# Altium footprint library shutdown_circuit.PcbLib: 38 footprints (part 2 of 3)
Each footprint in its own frame and in the unit in brackets; x right, y up, seen from the top. Pads: shape width x height; smd on the part's side, far side on the other; paste and mask are expansions set on the pad; w line width, h text height; cw(c..) or ccw(c..) is an arc to the next point about the centre after c.
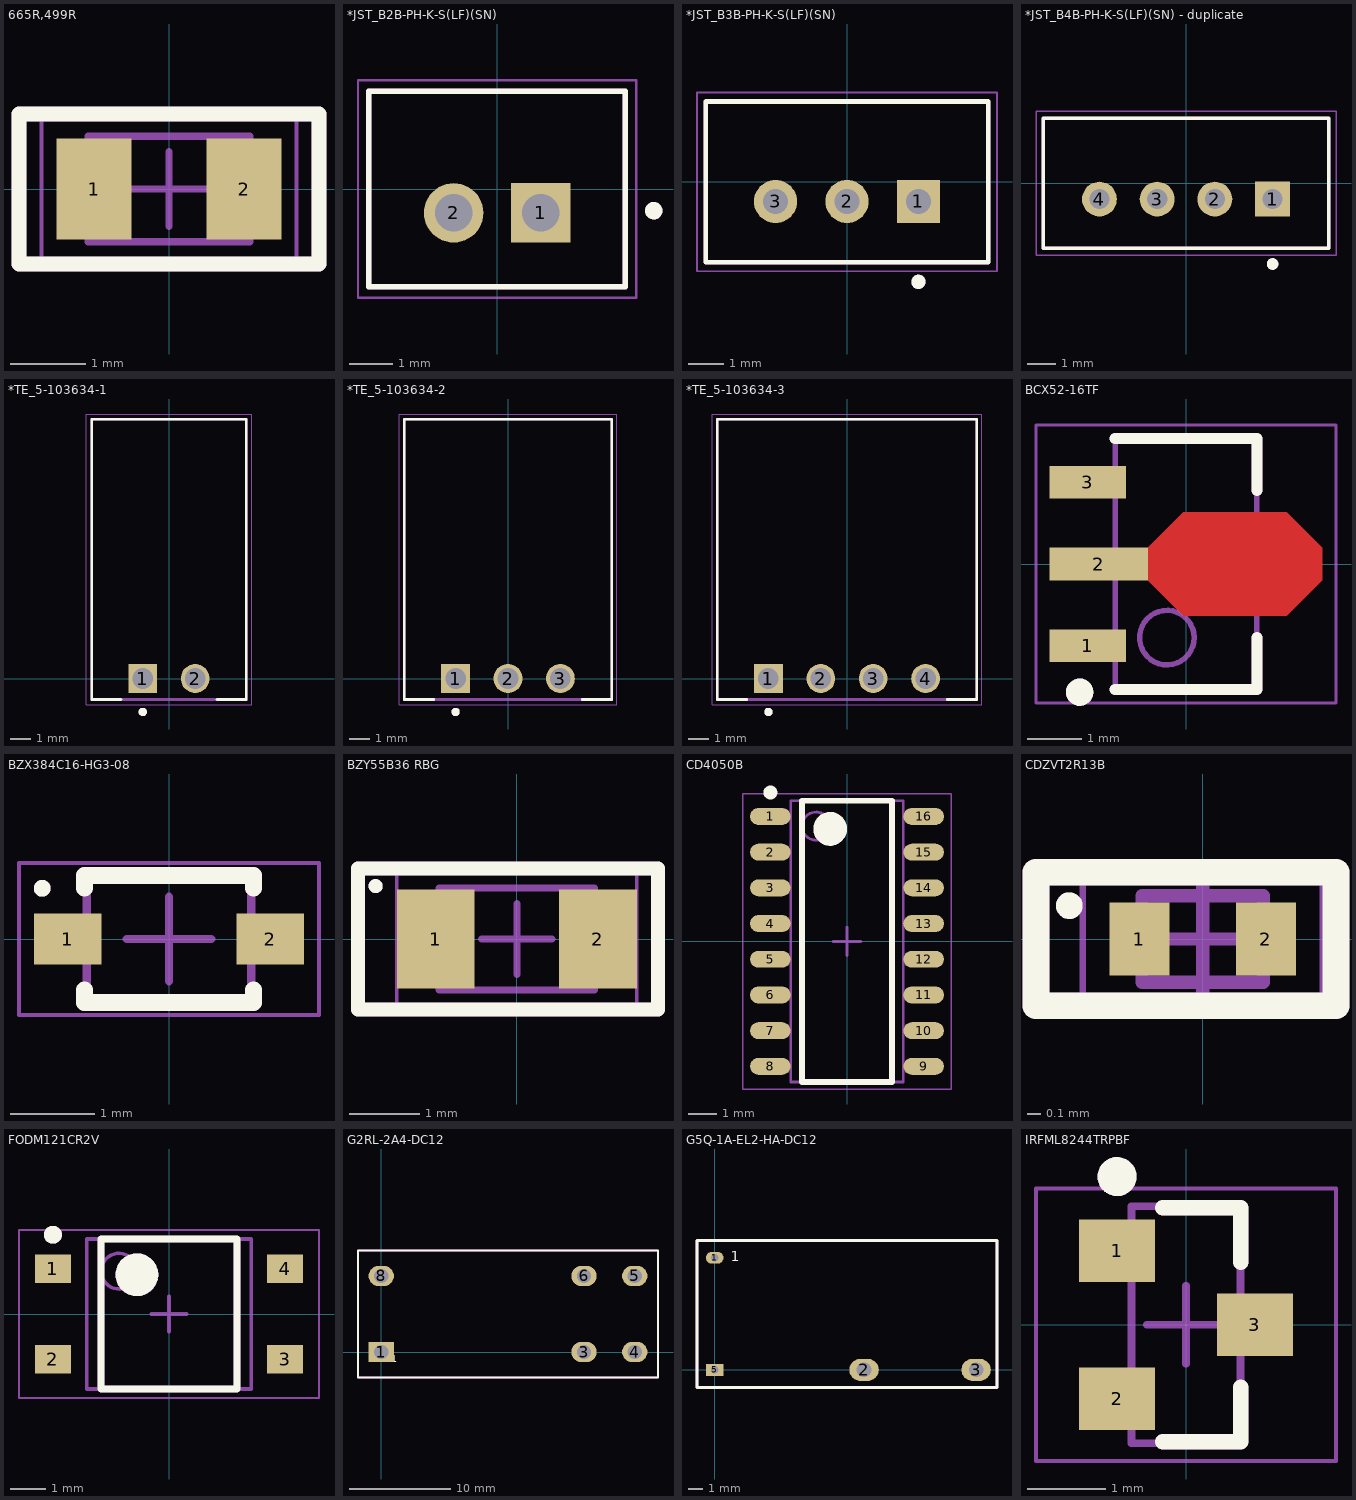
[diagram p1: the footprints below, top view; thin cyan lines are the x and y axes]

## 665R,499R [mm]
height 0.65
pads (2):
  rect 1x1.35 smd: 1(-1,0) 2(1,0)
Top Overlay:
  lines w0.2: -2,-1 2,-1 2,-0.25 2,0.25 2,1 -2,1 -2,-1
Assembly Top:
  lines w0.1: -1.075,-0.7 -1.075,0.7 1.075,0.7 1.075,-0.7 -1.075,-0.7
Courtyard Top:
  lines w0.05: -1.7,-0.95 -1.7,0.95 1.7,0.95 1.7,-0.95 -1.7,-0.95
  lines w0.1: -0.5,0 0.5,0 ; 0,-0.5 0,0.5
Mechanical 29 (Mech29):
  lines w0.2: -2,-1 2,-1 2,-0.25 2,0.25 2,1 -2,1 -2,-1
Mechanical 30:
  text "'.Designator'" at 0,0 h0.7
3D body: height 0.65, standoff 0, extent -0.675,-0.7 0.675,0.7
3D body: height 0.65, standoff 0, extent -1.075,-0.7 -0.675,0.7
3D body: height 0.65, standoff 0, extent 0.675,-0.7 1.075,0.7

## *JST_B2B-PH-K-S(LF)(SN) [mm]
pads (2):
  rect 1.368x1.368 hole 0.86: 1(1,-0.55)
  round 1.368 hole 0.86: 2(-1,-0.55)
Top Overlay:
  circle w0.2: c3.6,-0.5 r0.1
  lines w0.127: -2.95,-2.25 -2.95,2.25 2.95,2.25 2.95,-2.25 -2.95,-2.25
Mechanical 13:
  circle w0.2: c3.6,-0.5 r0.1
  circle w0.2: c3.6,-0.5 r0.1
  lines w0.127: -2.95,-2.25 2.95,-2.25 ; -2.95,-2.25 -2.95,2.25 ; -2.95,-2.25 2.95,-2.25 ; -2.95,-2.25 -2.95,2.25 ; -2.95,2.25 2.95,2.25 ; -2.95,2.25 2.95,2.25 ; 2.95,-2.25 2.95,2.25 ; 2.95,-2.25 2.95,2.25
Mechanical 15:
  lines w0.05: -3.2,-2.5 3.2,-2.5 3.2,2.5 -3.2,2.5 -3.2,-2.5
Mechanical 29 (Mech29):
  circle w0.2: c3.6,-0.5 r0.1
  lines w0.127: -2.95,-2.25 2.95,-2.25 2.95,2.25 -2.95,2.25 -2.95,-2.25
Mechanical 30:
  text "'.Designator'" at 0,0 h1.54
3D body "B2B-PH-K-S(LF)(SN)--3DModel-STEP-56544.STEP": height 6.01, standoff -3.39, extent -2.95,-2.25 2.95,2.25

## *JST_B3B-PH-K-S(LF)(SN) [mm]
pads (3):
  rect 1.208x1.208 hole 0.7: 1(2,-0.55)
  round 1.208 hole 0.7: 2(0,-0.55) 3(-2,-0.55)
Top Overlay:
  circle w0.2: c2,-2.8 r0.1
  lines w0.127: -3.95,-2.25 3.95,-2.25 3.95,2.25 -3.95,2.25 -3.95,-2.25
Mechanical 13:
  circle w0.2: c2,-2.8 r0.1
  lines w0.127: -3.95,-2.25 -3.95,2.25 3.95,2.25 3.95,-2.25 -3.95,-2.25
Mechanical 15:
  lines w0.05: -4.2,-2.5 -4.2,2.5 4.2,2.5 4.2,-2.5 -4.2,-2.5
Mechanical 29 (Mech29):
  circle w0.2: c2,-2.8 r0.1
  lines w0.127: -3.95,-2.25 -3.95,2.25 3.95,2.25 3.95,-2.25 -3.95,-2.25
Mechanical 30:
  text "'.Designator'" at -1,0 h1.54
3D body "B3B-PH-K-S.STEP": height 6, standoff -3.4, extent -3.95,-2.25 3.95,2.25

## *JST_B4B-PH-K-S(LF)(SN) - duplicate [mm]
pads (4):
  rect 1.208x1.208 hole 0.7: 1(3,-0.55)
  round 1.208 hole 0.7: 2(1,-0.55) 3(-1,-0.55) 4(-3,-0.55)
Top Overlay:
  circle w0.2: c3,-2.8 r0.1
  lines w0.127: -4.95,-2.25 -4.95,2.25 4.95,2.25 4.95,-2.25 -4.95,-2.25
Mechanical 13:
  circle w0.2: c3,-2.8 r0.1
  circle w0.2: c3,-2.8 r0.1
  lines w0.127: -4.95,-2.25 4.95,-2.25 ; -4.95,-2.25 -4.95,2.25 ; -4.95,-2.25 4.95,-2.25 ; -4.95,-2.25 -4.95,2.25 ; -4.95,2.25 4.95,2.25 ; -4.95,2.25 4.95,2.25 ; 4.95,-2.25 4.95,2.25 ; 4.95,-2.25 4.95,2.25
Mechanical 15:
  lines w0.05: -5.2,-2.5 5.2,-2.5 5.2,2.5 -5.2,2.5 -5.2,-2.5
Mechanical 29 (Mech29):
  circle w0.2: c3,-2.8 r0.1
  lines w0.127: -4.95,-2.25 4.95,-2.25 4.95,2.25 -4.95,2.25 -4.95,-2.25
Mechanical 30:
  text "'.Designator'" at 0,0 h1.54

## *TE_5-103634-1 [mm]
pads (2):
  rect 1.398x1.398 hole 1: 1(-1.27,0)
  round 1.398 hole 1: 2(1.27,0)
Top Overlay:
  circle w0.2: c-1.27,-1.62 r0.1
  lines w0.127: -2.326,-1.02 -3.75,-1.02 -3.75,12.57 3.75,12.57 3.75,-1.02 2.326,-1.02
Courtyard Top:
  circle w0.2: c-1.27,-1.62 r0.1
  circle w0.2: c-1.27,-1.62 r0.1
  lines w0.127: -3.75,-1.02 -3.75,12.57 ; -3.75,-1.02 3.75,-1.02 ; -3.75,-1.02 -3.75,12.57 ; -3.75,-1.02 3.75,-1.02 ; -3.75,12.57 3.75,12.57 ; -3.75,12.57 3.75,12.57 ; 3.75,-1.02 3.75,12.57 ; 3.75,-1.02 3.75,12.57
Mechanical 16:
  lines w0.05: -4,-1.27 4,-1.27 4,12.82 -4,12.82 -4,-1.27
Mechanical 29 (Mech29):
  circle w0.2: c-1.27,-1.62 r0.1
  lines w0.127: -2.326,-1.02 -3.75,-1.02 -3.75,12.57 3.75,12.57 3.75,-1.02 2.326,-1.02
Mechanical 30:
  text "'.Designator'" at 0,0 h1.54

## *TE_5-103634-2 [mm]
pads (3):
  rect 1.398x1.398 hole 1: 1(-2.54,0)
  round 1.398 hole 1: 2(0,0) 3(2.54,0)
Top Overlay:
  circle w0.2: c-2.54,-1.62 r0.1
  lines w0.127: -3.596,-1.02 -5.02,-1.02 -5.02,12.57 5.02,12.57 5.02,-1.02 3.596,-1.02
Courtyard Top:
  circle w0.2: c-2.54,-1.62 r0.1
  circle w0.2: c-2.54,-1.62 r0.1
  lines w0.127: -5.02,-1.02 5.02,-1.02 ; -5.02,-1.02 -5.02,12.57 ; -5.02,-1.02 5.02,-1.02 ; -5.02,-1.02 -5.02,12.57 ; -5.02,12.57 5.02,12.57 ; -5.02,12.57 5.02,12.57 ; 5.02,-1.02 5.02,12.57 ; 5.02,-1.02 5.02,12.57
Mechanical 16:
  lines w0.05: -5.27,-1.27 -5.27,12.82 5.27,12.82 5.27,-1.27 -5.27,-1.27
Mechanical 29 (Mech29):
  circle w0.2: c-2.54,-1.62 r0.1
  lines w0.127: -3.596,-1.02 -5.02,-1.02 -5.02,12.57 5.02,12.57 5.02,-1.02 3.596,-1.02
Mechanical 30:
  text "'.Designator'" at 0,0 h1.54

## *TE_5-103634-3 [mm]
pads (4):
  rect 1.398x1.398 hole 1: 1(-3.81,0)
  round 1.398 hole 1: 2(-1.27,0) 3(1.27,0) 4(3.81,0)
Top Overlay:
  circle w0.2: c-3.81,-1.62 r0.1
  lines w0.127: -4.866,-1.02 -6.29,-1.02 -6.29,12.57 6.29,12.57 6.29,-1.02 4.866,-1.02
Courtyard Top:
  circle w0.2: c-3.81,-1.62 r0.1
  circle w0.2: c-3.81,-1.62 r0.1
  lines w0.127: -6.29,-1.02 6.29,-1.02 ; -6.29,-1.02 -6.29,12.57 ; -6.29,-1.02 6.29,-1.02 ; -6.29,-1.02 -6.29,12.57 ; -6.29,12.57 6.29,12.57 ; -6.29,12.57 6.29,12.57 ; 6.29,-1.02 6.29,12.57 ; 6.29,-1.02 6.29,12.57
Mechanical 16:
  lines w0.05: -6.54,-1.27 -6.54,12.82 6.54,12.82 6.54,-1.27 -6.54,-1.27
Mechanical 29 (Mech29):
  circle w0.2: c-3.81,-1.62 r0.1
  lines w0.127: -4.866,-1.02 -6.29,-1.02 -6.29,12.57 6.29,12.57 6.29,-1.02 4.866,-1.02
Mechanical 30:
  text "'.Designator'" at 0,0 h1.54

## BCX52-16TF [mm]
height 1.6
pads (3):
  rect 1.4x0.6 smd: 1(-1.8,-1.5) 3(-1.8,1.5)
  rect 1.8x0.6 smd: 2(-1.6,0)
Top Layer:
  region: -0.7,0.3 -0.05,0.95 1.85,0.95 2.5,0.3 2.5,-0.3 1.85,-0.95 -0.05,-0.95 -0.7,-0.3
Top Overlay:
  circle w0.25: c-1.95,-2.35 r0.125
  circle w0.25: c-1.95,-2.35 r0.125
  circle w0.25: c-1.95,-2.35 r0.125
  circle w0.25: c-1.95,-2.35 r0.125
  lines w0.2: -1.3,-2.3 1.3,-2.3 ; -1.3,-2.3 1.3,-2.3 ; -1.3,-2.3 1.3,-2.3 ; -1.3,-2.3 1.3,-2.3 ; -1.3,2.3 1.3,2.3 ; -1.3,2.3 1.3,2.3 ; -1.3,2.3 1.3,2.3 ; -1.3,2.3 1.3,2.3 ; 1.3,-2.3 1.3,-1.35 ; 1.3,-2.3 1.3,-1.35 ; 1.3,-2.3 1.3,-1.35 ; 1.3,-2.3 1.3,-1.35 ; 1.3,1.35 1.3,2.3 ; 1.3,1.35 1.3,2.3 ; 1.3,1.35 1.3,2.3 ; 1.3,1.35 1.3,2.3
Assembly Top:
  circle w0.1: c-0.35,-1.35 r0.5
  lines w0.1: -1.3,-2.3 1.3,-2.3 1.3,2.3 -1.3,2.3 -1.3,-2.3
Courtyard Top:
  lines w0.05: -2.75,-2.55 2.75,-2.55 2.75,2.55 -2.75,2.55 -2.75,-2.55
  lines w0.1: -0.5,0 0.5,0 ; 0,-0.5 0,0.5
Mechanical 29 (Mech29):
  circle w0.25: c-1.95,-2.35 r0.125
  circle w0.25: c-1.95,-2.35 r0.125
  lines w0.2: 1.3,-2.3 -1.3,-2.3 1.3,-2.3 ; 1.3,-2.3 1.3,-1.35 1.3,-2.3 ; 1.3,2.3 -1.3,2.3 1.3,2.3 ; 1.3,2.3 1.3,1.35 1.3,2.3
Mechanical 30:
  text "'.Designator'" at 0,0 h0.7
3D body "SOT89R-150P400X160-3N.step": height 1.6, standoff 0, extent -2.2,-2.297 1.85,2.297

## BZX384C16-HG3-08 [mm]
height 1.15
pads (2):
  rect 0.8x0.6 smd: 1(-1.2,0) 2(1.2,0)
Top Overlay:
  circle w0.1: c-1.5,0.6 r0.05
  lines w0.2: -1,-0.6 -1,-0.75 1,-0.75 1,-0.6 ; -1,0.6 -1,0.75 1,0.75 1,0.6
Assembly Top:
  lines w0.1: -0.975,-0.75 -0.975,0.75 0.975,0.75 0.975,-0.75 -0.975,-0.75
Courtyard Top:
  lines w0.05: -1.775,-0.9 -1.775,0.9 1.775,0.9 1.775,-0.9 -1.775,-0.9
  lines w0.1: -0.5,0 0.5,0 ; 0,-0.5 0,0.5
Mechanical 29 (Mech29):
  circle w0.1: c-1.5,0.6 r0.05
  lines w0.2: -1,-0.6 -1,-0.75 1,-0.75 1,-0.6 ; -1,0.6 -1,0.75 1,0.75 1,0.6
Mechanical 30:
  text "'.Designator'" at 0,0 h0.7
3D body: height 1.15, standoff 0, extent -0.975,-0.75 0.975,0.75

## BZY55B36 RBG [mm]
height 0.85
pads (2):
  rect 1.1x1.4 smd: 1(-1.15,0) 2(1.15,0)
Top Overlay:
  circle w0.1: c-2,0.75 r0.05
  lines w0.2: -2.25,-1 2,-1 2,1 -2.25,1 -2.25,-1
Assembly Top:
  lines w0.1: -1.1,-0.725 -1.1,0.725 1.1,0.725 1.1,-0.725 -1.1,-0.725
Courtyard Top:
  lines w0.05: -1.7,-1 -1.7,1 1.7,1 1.7,-1 -1.7,-1
  lines w0.1: -0.5,0 0.5,0 ; 0,-0.5 0,0.5
Mechanical 29 (Mech29):
  circle w0.1: c-2,0.75 r0.05
  lines w0.2: -2.25,-1 2,-1 2,1 -2.25,1 -2.25,-1
Mechanical 30:
  text "'.Designator'" at 0,0 h0.7
3D body: height 0.85, standoff 0, extent -0.65,-0.725 0.65,0.725
3D body: height 0.85, standoff 0, extent -1.1,-0.725 -0.65,0.725
3D body: height 0.85, standoff 0, extent 0.65,-0.725 1.1,0.725

## CD4050B [mm] "SOIC, 16-Leads, Body 9.90x3.90mm, Pitch 1.27mm, IPC Medium Density"
height 1.75
pads (16):
  oval 1.45x0.6 smd: 1(-2.725,4.445) 2(-2.725,3.175) 3(-2.725,1.905) 4(-2.725,0.635) 5(-2.725,-0.635) 6(-2.725,-1.905) 7(-2.725,-3.175) 8(-2.725,-4.445) 9(2.725,-4.445) 10(2.725,-3.175) 11(2.725,-1.905) 12(2.725,-0.635) 13(2.725,0.635) 14(2.725,1.905) 15(2.725,3.175) 16(2.725,4.445)
Top Overlay:
  circle w0.6: c-0.6,4 r0.3
  circle w0.25: c-2.725,5.295 r0.125
  lines w0.2: -1.6,-5 1.6,-5 1.6,5 -1.6,5 -1.6,-5
Assembly Top:
  circle w0.1: c-1.1,4.1 r0.5
  lines w0.1: -2,-5 2,-5 2,5 -2,5 -2,-5
Courtyard Top:
  lines w0.05: -3.7,-5.25 3.7,-5.25 3.7,5.25 -3.7,5.25 -3.7,-5.25
  lines w0.1: -0.5,0 0.5,0 ; 0,-0.5 0,0.5
3D body: height 1.75, standoff 0.1, extent -2,-5 2,5

## CDZVT2R13B [mm]
height 0.4
pads (2):
  rect 0.45x0.55 smd: 1(-0.475,0) 2(0.475,0)
Top Overlay:
  circle w0.1: c-1,0.25 r0.05
  lines w0.2: -1.25,-0.5 1,-0.5 1,0.5 -1.25,0.5 -1.25,-0.5
Assembly Top:
  lines w0.1: -0.455,-0.325 -0.455,0.325 0.455,0.325 0.455,-0.325 -0.455,-0.325
Courtyard Top:
  lines w0.05: -0.9,-0.5 -0.9,0.5 0.9,0.5 0.9,-0.5 -0.9,-0.5
  lines w0.1: -0.5,0 0.5,0 ; 0,-0.5 0,0.5
Mechanical 29 (Mech29):
  circle w0.1: c-1,0.25 r0.05
  lines w0.2: -1.25,-0.5 1,-0.5 1,0.5 -1.25,0.5 -1.25,-0.5
Mechanical 30:
  text "'.Designator'" at 0,0 h0.7
3D body "CDZVT2R13B .step": height 0.4, standoff 0, extent -0.5,-0.325 0.5,0.325

## FODM121CR2V [mm]
height 2.4
pads (4):
  rect 1x0.8 smd: 1(-3.25,1.27) 2(-3.25,-1.27) 3(3.25,-1.27) 4(3.25,1.27)
Top Overlay:
  circle w0.25: c-3.25,2.22 r0.125
  circle w0.6: c-0.9,1.1 r0.3
  lines w0.2: -1.9,-2.1 -1.9,2.1 1.9,2.1 1.9,-2.1 -1.9,-2.1
Assembly Top:
  circle w0.1: c-1.4,1.2 r0.5
  lines w0.1: -2.3,-2.1 -2.3,2.1 2.3,2.1 2.3,-2.1 -2.3,-2.1
Courtyard Top:
  lines w0.05: -4.2,-2.35 -4.2,2.35 4.2,2.35 4.2,-2.35 -4.2,-2.35
  lines w0.1: -0.5,0 0.5,0 ; 0,-0.5 0,0.5
Mechanical 29 (Mech29):
  circle w0.25: c-3.25,2.22 r0.125
  circle w0.6: c-0.9,1.1 r0.3
  lines w0.2: -1.9,-2.1 -1.9,2.1 1.9,2.1 1.9,-2.1 -1.9,-2.1
Mechanical 30:
  text "'.Designator'" at 0,0 h0.7
3D body "FODM121CR2V .step": height 2.4, standoff 0, extent -3.375,-2.1 3.375,2.1

## G2RL-2A4-DC12 [mm]
pads (6):
  rect 2.5x2 hole 1.4: 1(0,0)
  oval 2.5x2 hole 1.4: 3(20,0) 4(25,0) 5(25,7.5) 6(20,7.5) 8(0,7.5)
Top Overlay:
  lines w0.2: -2.3,-2.5 -2.3,10 27.3,10 27.3,-2.5 -2.3,-2.5
  text "1" at 1,-1 h0.7
Mechanical 29 (Mech29):
  lines w0.2: -2.3,-2.5 -2.3,10 27.3,10 27.3,-2.5 -2.3,-2.5
  text "1" at 1,-1 h0.7
Mechanical 30:
  text "'.Designator'" at 0,0 h0.7
3D body "G2RL-2A4.STEP": height 15.7, standoff -3.5, extent -2.25,-2.6 26.75,10.1

## G5Q-1A-EL2-HA-DC12 [mm]
pads (4):
  oval 1.2x0.8 hole 0.5: 1(0,7.62)
  oval 2x1.5 hole 1: 2(10.16,0) 3(17.78,0)
  rect 1.2x0.8 hole 0.5: 5(0,0)
Top Overlay:
  lines w0.2: -1.2,-1.2 -1.2,8.8 10.16,8.8 17.78,8.8 19.2,8.8 19.2,-1.2 -1.2,-1.2
  text "1" at 1.1,7.4 h0.7
Mechanical 1:
  text "'.Designator'" at 0,0 h0.7
Mechanical 30:
  lines w0.2: -1.2,-1.2 19.2,-1.2 19.2,8.8 17.78,8.8 10.16,8.8 -1.2,8.8 -1.2,-1.2
  text "1" at 1.1,7.4 h0.7

## IRFML8244TRPBF [mm]
height 1.12
pads (3):
  rect 0.972x0.802 smd: 1(-0.885,0.95) 2(-0.885,-0.95) 3(0.885,0)
Top Overlay:
  circle w0.25: c-0.885,1.901 r0.125
  lines w0.2: -0.3,-1.5 0.7,-1.5 0.7,-0.801 ; -0.3,1.5 0.7,1.5 0.7,0.801
Assembly Top:
  lines w0.1: -0.7,-1.52 0.7,-1.52 0.7,1.52 -0.7,1.52 -0.7,-1.52
Courtyard Top:
  lines w0.05: -1.925,-1.75 1.925,-1.75 1.925,1.75 -1.925,1.75 -1.925,-1.75
  lines w0.1: -0.5,0 0.5,0 ; 0,-0.5 0,0.5
Mechanical 29 (Mech29):
  circle w0.25: c-0.885,1.901 r0.125
  lines w0.2: -0.3,-1.5 0.7,-1.5 0.7,-0.801 ; -0.3,1.5 0.7,1.5 0.7,0.801
Mechanical 30:
  text "'.Designator'" at 0,0 h0.7
3D body "IRFML8244TRPBF  .step": height 1.12, standoff 0, extent -1.32,-1.52 1.32,1.52